# Altium schematic symbol library AFII-SW-0094-Q.SchLib: 1 symbol
Pins are listed as number, name and electrical type; pins without a type are passive.

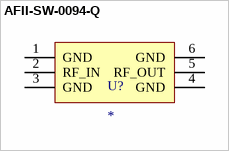
[diagram p0: symbol AFII-SW-0094-Q]

## AFII-SW-0094-Q
designator U?
pins: 1 GND (power), 2 RF_IN (power), 3 GND (power), 4 GND (power), 5 RF_OUT (power), 6 GND (power)